# EAGLE library part DC25-73 (library RADAR)
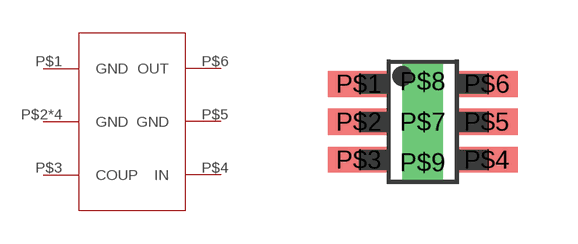
[diagram p3: symbol with the pads of SOT6; footprint SOT6]

Designator prefix -

## DC25-73  [SOT6]
P$1  GND  pwr
P$2  GND  pwr
P$3  COUP
P$4  IN
P$5  GND
P$6  OUT
P$7  GND  pwr
P$8  GND  pwr
P$9  GND  pwr

## Footprint SOT6 (pad centres in mm)
smd 1.55 x 0.65: P$1 -1.6,0.95; P$2 -1.6,0; P$3 -1.6,-0.95; P$4 1.6,-0.95; P$5 1.6,0; P$6 1.6,0.95
drill 0.508 pad 0.813 square: P$7 0,0; P$8 0,1.016; P$9 0,-1.016